# Altium footprint library PCB.PcbLib: 224 footprints (part 8 of 14)
Each footprint in its own frame and in the unit in brackets; x right, y up, seen from the top. Pads: shape width x height; smd on the part's side, far side on the other; paste and mask are expansions set on the pad; w line width, h text height; cw(c..) or ccw(c..) is an arc to the next point about the centre after c.
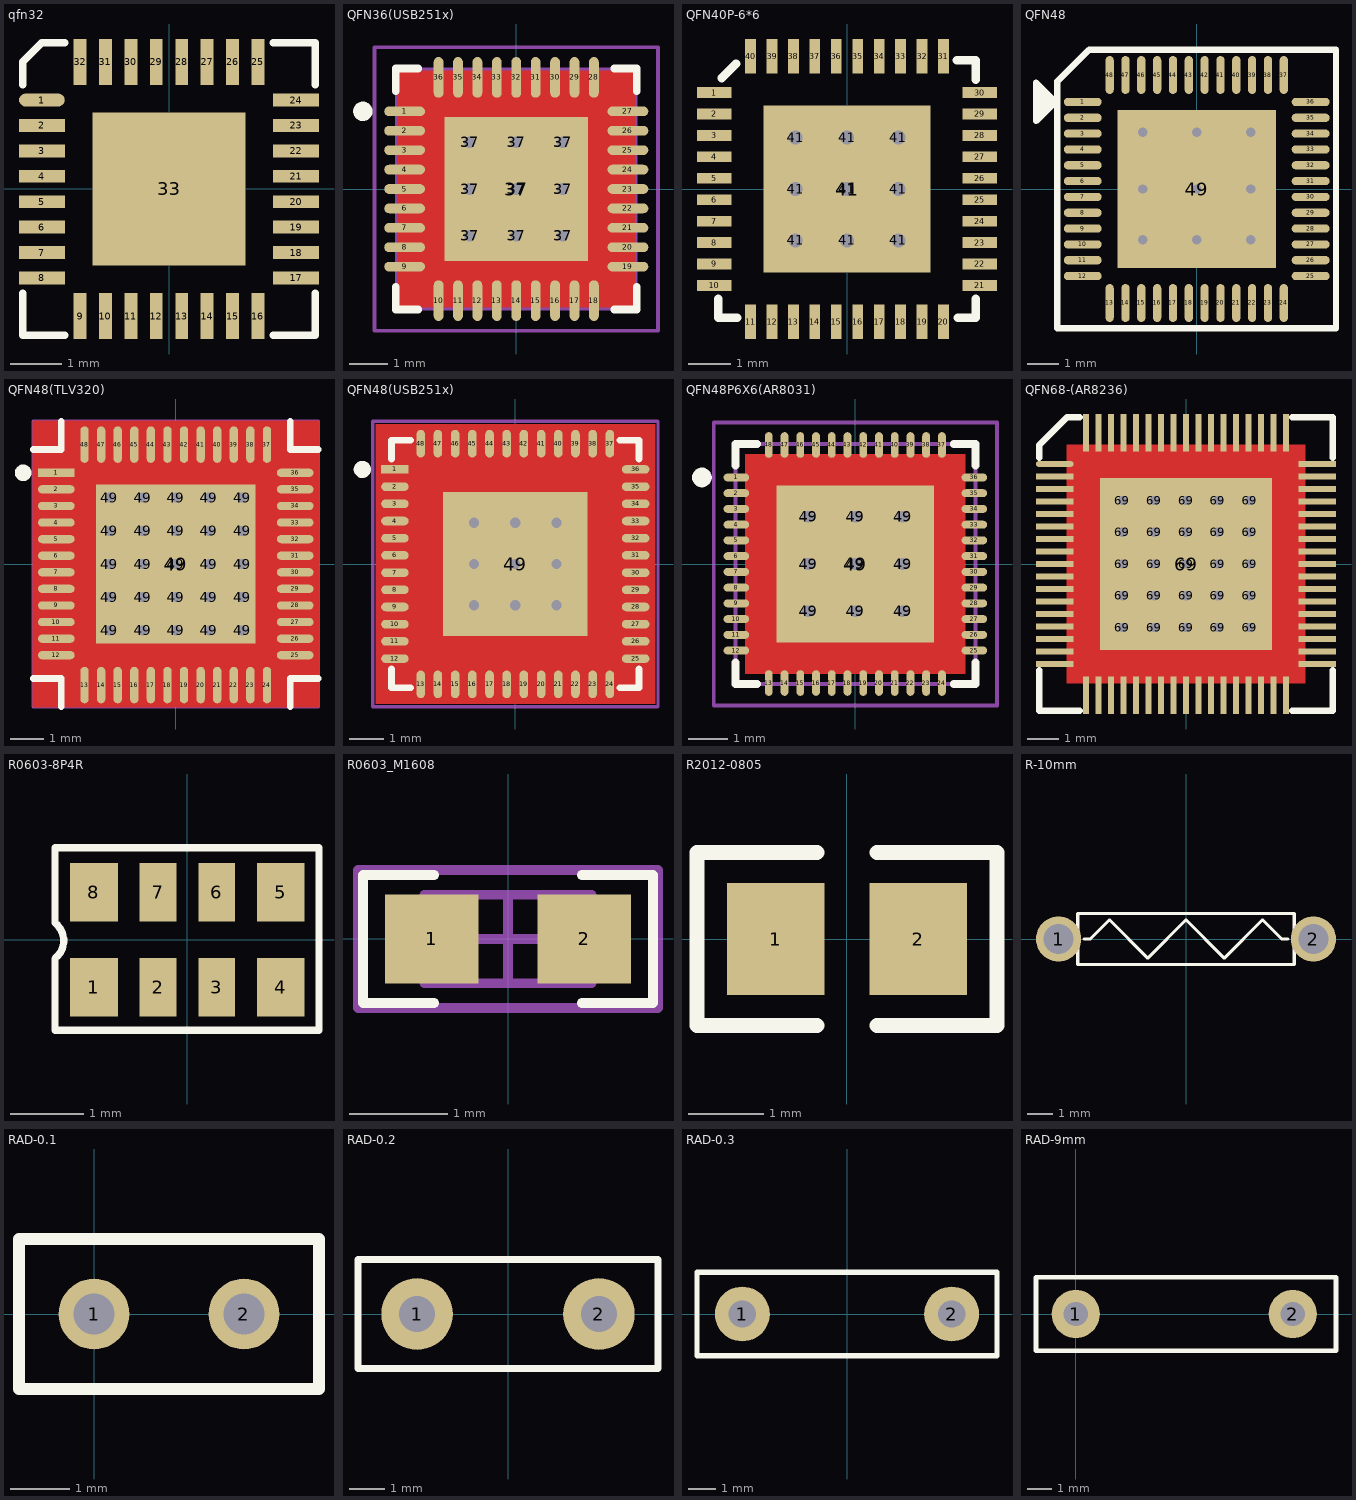
[diagram p7: the footprints below, top view; thin cyan lines are the x and y axes]

## qfn32 [mm]
pads (33):
  oval 0.9x0.254 smd: 1(-2.5,1.75)
  rect 0.9x0.254 smd: 2(-2.5,1.25) 3(-2.5,0.75) 4(-2.5,0.25) 5(-2.5,-0.25) 6(-2.5,-0.75) 7(-2.5,-1.25) 8(-2.5,-1.75) 17(2.5,-1.75) 18(2.5,-1.25) 19(2.5,-0.75) 20(2.5,-0.25) 21(2.5,0.25) 22(2.5,0.75) 23(2.5,1.25) 24(2.5,1.75)
  rect 0.254x0.9 smd: 9(-1.75,-2.5) 10(-1.25,-2.5) 11(-0.75,-2.5) 12(-0.25,-2.5) 13(0.25,-2.5) 14(0.75,-2.5) 15(1.25,-2.5) 16(1.75,-2.5) 25(1.75,2.5) 26(1.25,2.5) 27(0.75,2.5) 28(0.25,2.5) 29(-0.25,2.5) 30(-0.75,2.5) 31(-1.25,2.5) 32(-1.75,2.5)
  rect 3x3 smd: 33(0,0)
Top Overlay:
  lines w0.15: -2.875,-2.05 -2.875,-2.875 -2.05,-2.875 ; -2.875,2.05 -2.875,2.5 -2.5,2.875 -2.05,2.875 ; 2.05,-2.875 2.875,-2.875 2.875,-2.05 ; 2.05,2.875 2.875,2.875 2.875,2.05

## QFN36(USB251x) [mm]
height 1
pads (46):
  oval 1.05x0.25 smd: 1(-2.875,2) 2(-2.875,1.5) 3(-2.875,1) 4(-2.875,0.5) 5(-2.875,0) 6(-2.875,-0.5) 7(-2.875,-1) 8(-2.875,-1.5) 9(-2.875,-2) 19(2.875,-2) 20(2.875,-1.5) 21(2.875,-1) 22(2.875,-0.5) 23(2.875,0) 24(2.875,0.5) 25(2.875,1) 26(2.875,1.5) 27(2.875,2)
  oval 0.25x1.05 smd: 10(-2,-2.875) 11(-1.5,-2.875) 12(-1,-2.875) 13(-0.5,-2.875) 14(0,-2.875) 15(0.5,-2.875) 16(1,-2.875) 17(1.5,-2.875) 18(2,-2.875) 28(2,2.875) 29(1.5,2.875) 30(1,2.875) 31(0.5,2.875) 32(0,2.875) 33(-0.5,2.875) 34(-1,2.875) 35(-1.5,2.875) 36(-2,2.875)
  round 0.6 hole 0.3: 37(-1.2,-1.2) 37(-1.2,0) 37(-1.2,1.2) 37(0,-1.2) 37(0,0) 37(0,1.2) 37(1.2,-1.2) 37(1.2,0) 37(1.2,1.2)
  rect 3.7x3.7 smd: 37(0,0)
Top Layer:
  pour cut-out: -3.048,3.048 3.048,3.048 3.048,-3.048 -3.048,-3.048
Top Overlay:
  circle w0.25: c-3.95,2 r0.125
  lines w0.2: -3.1,-2.525 -3.1,-3.1 -2.525,-3.1 ; -3.1,2.525 -3.1,3.1 -2.525,3.1 ; 2.525,-3.1 3.1,-3.1 3.1,-2.525 ; 2.525,3.1 3.1,3.1 3.1,2.525
Mechanical 13:
  circle w0.1: c-2.125,2.125 r0.5
  lines w0.1: -3.075,-3.075 3.075,-3.075 3.075,3.075 -3.075,3.075 -3.075,-3.075
Mechanical 15:
  lines w0.1: -0.5,0 0.5,0 ; 0,-0.5 0,0.5 ; -3.65,-3.65 3.65,-3.65 3.65,3.65 -3.65,3.65 -3.65,-3.65
3D body: height 1, standoff 0.05, extent -3.075,-3.075 3.075,3.075

## QFN40P-6*6 [mm] "QFN, 48-Leads, Body 6.1x6.1mm (max), Pitch 0.40mm, IPC Medium Density"
height 0.8
pads (50):
  rect 0.8x0.25 smd: 1(-3.1,2.25) 2(-3.1,1.75) 3(-3.1,1.25) 4(-3.1,0.75) 5(-3.1,0.25) 6(-3.1,-0.25) 7(-3.1,-0.75) 8(-3.1,-1.25) 9(-3.1,-1.75) 10(-3.1,-2.25) 21(3.1,-2.25) 22(3.1,-1.75) 23(3.1,-1.25) 24(3.1,-0.75) 25(3.1,-0.25) 26(3.1,0.25) 27(3.1,0.75) 28(3.1,1.25) 29(3.1,1.75) 30(3.1,2.25)
  rect 0.25x0.8 smd: 11(-2.25,-3.1) 12(-1.75,-3.1) 13(-1.25,-3.1) 14(-0.75,-3.1) 15(-0.25,-3.1) 16(0.25,-3.1) 17(0.75,-3.1) 18(1.25,-3.1) 19(1.75,-3.1) 20(2.25,-3.1) 31(2.25,3.1) 32(1.75,3.1) 33(1.25,3.1) 34(0.75,3.1) 35(0.25,3.1) 36(-0.25,3.1) 37(-0.75,3.1) 38(-1.25,3.1) 39(-1.75,3.1) 40(-2.25,3.1)
  round 0.5 hole 0.33 unplated: 41(-1.2,-1.2) 41(-1.2,0) 41(-1.2,1.2) 41(0,-1.2) 41(0,0) 41(0,1.2) 41(1.2,-1.2) 41(1.2,0) 41(1.2,1.2)
  rect 3.9x3.9 smd: 41(0,0)
Top Overlay:
  lines w0.2: -3,-2.565 -3,-3 -2.565,-3 ; -2.921,2.591 -2.591,2.921 ; 2.565,3 3,3 3,2.55 ; 2.591,-3 2.997,-3 ; 3,-3 3,-2.565

## QFN48 [mm]
pads (49):
  oval 1.2x0.26 smd: 1(-3.6,2.75) 2(-3.6,2.25) 3(-3.6,1.75) 4(-3.6,1.25) 5(-3.6,0.75) 6(-3.6,0.25) 7(-3.6,-0.25) 8(-3.6,-0.75) 9(-3.6,-1.25) 10(-3.6,-1.75) 11(-3.6,-2.25) 12(-3.6,-2.75) 25(3.6,-2.75) 26(3.6,-2.25) 27(3.6,-1.75) 28(3.6,-1.25) 29(3.6,-0.75) 30(3.6,-0.25) 31(3.6,0.25) 32(3.6,0.75) 33(3.6,1.25) 34(3.6,1.75) 35(3.6,2.25) 36(3.6,2.75)
  oval 0.26x1.2 smd: 13(-2.75,-3.6) 14(-2.25,-3.6) 15(-1.75,-3.6) 16(-1.25,-3.6) 17(-0.75,-3.6) 18(-0.25,-3.6) 19(0.25,-3.6) 20(0.75,-3.6) 21(1.25,-3.6) 22(1.75,-3.6) 23(2.25,-3.6) 24(2.75,-3.6) 37(2.75,3.6) 38(2.25,3.6) 39(1.75,3.6) 40(1.25,3.6) 41(0.75,3.6) 42(0.25,3.6) 43(-0.25,3.6) 44(-0.75,3.6) 45(-1.25,3.6) 46(-1.75,3.6) 47(-2.25,3.6) 48(-2.75,3.6)
  rect 5x5 smd: 49(0,0)
via 1.7,1.8 diameter 0.66 hole 0.3
via -1.7,1.8 diameter 0.66 hole 0.3
via 0,1.8 diameter 0.66 hole 0.3
via 1.7,0 diameter 0.66 hole 0.3
via 0,0 diameter 0.66 hole 0.3
via -1.7,0 diameter 0.66 hole 0.3
via -1.7,-1.6 diameter 0.66 hole 0.3
via 0,-1.6 diameter 0.66 hole 0.3
via 1.7,-1.6 diameter 0.66 hole 0.3
Top Overlay:
  lines w0.203: -4.927,2.35 -4.927,3.15 ; -4.827,2.45 -4.827,3.05 ; -4.677,2.6 -4.677,2.95 ; -5.077,2.15 -4.477,2.75 -5.077,3.35 -5.077,2.15 ; -4.4,-4.4 -4.4,3.4 -3.4,4.4 4.4,4.4 4.4,-4.4 -4.4,-4.4

## QFN48(TLV320) [mm]
height 1
pads (74):
  rect 1.1x0.25 smd: 1(-3.6,2.75)
  oval 1.1x0.25 smd: 2(-3.6,2.25) 3(-3.6,1.75) 4(-3.6,1.25) 5(-3.6,0.75) 6(-3.6,0.25) 7(-3.6,-0.25) 8(-3.6,-0.75) 9(-3.6,-1.25) 10(-3.6,-1.75) 11(-3.6,-2.25) 12(-3.6,-2.75) 25(3.6,-2.75) 26(3.6,-2.25) 27(3.6,-1.75) 28(3.6,-1.25) 29(3.6,-0.75) 30(3.6,-0.25) 31(3.6,0.25) 32(3.6,0.75) 33(3.6,1.25) 34(3.6,1.75) 35(3.6,2.25) 36(3.6,2.75)
  oval 0.25x1.1 smd: 13(-2.75,-3.65) 14(-2.25,-3.65) 15(-1.75,-3.65) 16(-1.25,-3.65) 17(-0.75,-3.65) 18(-0.25,-3.65) 19(0.25,-3.65) 20(0.75,-3.65) 21(1.25,-3.65) 22(1.75,-3.65) 23(2.25,-3.65) 24(2.75,-3.65) 37(2.75,3.6) 38(2.25,3.6) 39(1.75,3.6) 40(1.25,3.6) 41(0.75,3.6) 42(0.25,3.6) 43(-0.25,3.6) 44(-0.75,3.6) 45(-1.25,3.6) 46(-1.75,3.6) 47(-2.25,3.6) 48(-2.75,3.6)
  round 0.66 hole 0.3: 49(-2,-2) 49(-2,-1) 49(-2,0) 49(-2,1) 49(-2,2) 49(-1,-2) 49(-1,-1) 49(-1,0) 49(-1,1) 49(-1,2) 49(0,-2) 49(0,-1) 49(0,0) 49(0,1) 49(0,2) 49(1,-2) 49(1,-1) 49(1,0) 49(1,1) 49(1,2) 49(2,-2) 49(2,-1) 49(2,0) 49(2,1) 49(2,2)
  rect 4.8x4.8 smd: 49(0,0)
Top Layer:
  pour cut-out: -4.318,4.318 4.318,4.318 4.318,-4.318 -4.318,-4.318
Top Overlay:
  circle w0.25: c-4.6,2.75 r0.125
  lines w0.2: -4.3,-3.45 -3.45,-3.45 -3.45,-4.3 ; -4.3,3.45 -3.45,3.45 -3.45,4.3 ; 3.45,-4.3 3.45,-3.45 4.3,-3.45 ; 3.45,4.3 3.45,3.45 4.3,3.45
Mechanical 13:
  circle w0.1: c-2.475,2.475 r0.5
  lines w0.1: -3.425,-3.425 -3.425,3.425 3.425,3.425 3.425,-3.425 -3.425,-3.425
Mechanical 15:
  lines w0.1: -0.5,0 0.5,0 ; 0,-0.5 0,0.5 ; -4.3,-4.3 -4.3,4.3 4.3,4.3 4.3,-4.3 -4.3,-4.3
3D body: height 1, standoff 0.05, extent -3.425,-3.425 3.425,3.425

## QFN48(USB251x) [mm]
height 1
pads (49):
  rect 0.8x0.25 smd: 1(-3.5,2.75)
  oval 0.8x0.25 smd: 2(-3.5,2.25) 3(-3.5,1.75) 4(-3.5,1.25) 5(-3.5,0.75) 6(-3.5,0.25) 7(-3.5,-0.25) 8(-3.5,-0.75) 9(-3.5,-1.25) 10(-3.5,-1.75) 11(-3.5,-2.25) 12(-3.5,-2.75) 25(3.5,-2.75) 26(3.5,-2.25) 27(3.5,-1.75) 28(3.5,-1.25) 29(3.5,-0.75) 30(3.5,-0.25) 31(3.5,0.25) 32(3.5,0.75) 33(3.5,1.25) 34(3.5,1.75) 35(3.5,2.25) 36(3.5,2.75)
  oval 0.25x0.8 smd: 13(-2.75,-3.5) 14(-2.25,-3.5) 15(-1.75,-3.5) 16(-1.25,-3.5) 17(-0.75,-3.5) 18(-0.25,-3.5) 19(0.25,-3.5) 20(0.75,-3.5) 21(1.25,-3.5) 22(1.75,-3.5) 23(2.25,-3.5) 24(2.75,-3.5) 37(2.75,3.5) 38(2.25,3.5) 39(1.75,3.5) 40(1.25,3.5) 41(0.75,3.5) 42(0.25,3.5) 43(-0.25,3.5) 44(-0.75,3.5) 45(-1.25,3.5) 46(-1.75,3.5) 47(-2.25,3.5) 48(-2.75,3.5)
  rect 4.2x4.2 smd: 49(0,0)
via -1.2,1.2 diameter 0.66 hole 0.3
via 0,1.2 diameter 0.66 hole 0.3
via 1.2,1.2 diameter 0.66 hole 0.3
via -1.2,0 diameter 0.66 hole 0.3
via 0,0 diameter 0.66 hole 0.3
via 1.2,0 diameter 0.66 hole 0.3
via -1.2,-1.2 diameter 0.66 hole 0.3
via 0,-1.2 diameter 0.66 hole 0.3
via 1.2,-1.2 diameter 0.66 hole 0.3
Top Layer:
  pour cut-out: -4.064,4.064 4.064,4.064 4.064,-4.064 -4.064,-4.064
Top Overlay:
  circle w0.25: c-4.45,2.75 r0.125
  lines w0.2: -3.6,-3.05 -3.6,-3.6 -3.05,-3.6 ; -3.6,3.05 -3.6,3.6 -3.05,3.6 ; 3.05,-3.6 3.6,-3.6 3.6,-3.05 ; 3.05,3.6 3.6,3.6 3.6,3.05
Mechanical 13:
  circle w0.1: c-2.625,2.625 r0.5
  lines w0.1: -3.575,-3.575 -3.575,3.575 3.575,3.575 3.575,-3.575 -3.575,-3.575
Mechanical 15:
  lines w0.1: -0.5,0 0.5,0 ; 0,-0.5 0,0.5 ; -4.15,-4.15 -4.15,4.15 4.15,4.15 4.15,-4.15 -4.15,-4.15
3D body: height 1, standoff 0.05, extent -3.575,-3.575 3.575,3.575

## QFN48P6X6(AR8031) [mm] "QFN, 48-Leads, Body 6.1x6.1mm (max), Pitch 0.40mm, IPC Medium Density"
height 0.8
pads (58):
  oval 0.65x0.2 smd: 1(-3.025,2.2) 2(-3.025,1.8) 3(-3.025,1.4) 4(-3.025,1) 5(-3.025,0.6) 6(-3.025,0.2) 7(-3.025,-0.2) 8(-3.025,-0.6) 9(-3.025,-1) 10(-3.025,-1.4) 11(-3.025,-1.8) 12(-3.025,-2.2) 25(3.025,-2.2) 26(3.025,-1.8) 27(3.025,-1.4) 28(3.025,-1) 29(3.025,-0.6) 30(3.025,-0.2) 31(3.025,0.2) 32(3.025,0.6) 33(3.025,1) 34(3.025,1.4) 35(3.025,1.8) 36(3.025,2.2)
  oval 0.2x0.65 smd: 13(-2.2,-3.025) 14(-1.8,-3.025) 15(-1.4,-3.025) 16(-1,-3.025) 17(-0.6,-3.025) 18(-0.2,-3.025) 19(0.2,-3.025) 20(0.6,-3.025) 21(1,-3.025) 22(1.4,-3.025) 23(1.8,-3.025) 24(2.2,-3.025) 37(2.2,3.025) 38(1.8,3.025) 39(1.4,3.025) 40(1,3.025) 41(0.6,3.025) 42(0.2,3.025) 43(-0.2,3.025) 44(-0.6,3.025) 45(-1,3.025) 46(-1.4,3.025) 47(-1.8,3.025) 48(-2.2,3.025)
  round 0.6 hole 0.3: 49(-1.2,-1.2) 49(-1.2,0) 49(-1.2,1.2) 49(0,-1.2) 49(0,0) 49(0,1.2) 49(1.2,-1.2) 49(1.2,0) 49(1.2,1.2)
  rect 4x4 smd: 49(0,0)
Top Layer:
  pour cut-out: -2.794,2.794 -2.794,-2.794 2.794,-2.794 2.794,2.794
Top Overlay:
  circle w0.25: c-3.9,2.2 r0.125
  lines w0.2: -3.05,-2.5 -3.05,-3.05 -2.5,-3.05 ; -3.05,2.5 -3.05,3.05 -2.5,3.05 ; 2.5,-3.05 3.05,-3.05 3.05,-2.5 ; 2.5,3.05 3.05,3.05 3.05,2.5
Mechanical 13:
  circle w0.1: c-2.1,2.1 r0.5
  lines w0.1: -3.05,-3.05 -3.05,3.05 3.05,3.05 3.05,-3.05 -3.05,-3.05
Mechanical 15:
  lines w0.1: -0.5,0 0.5,0 ; 0,-0.5 0,0.5 ; -3.6,-3.6 -3.6,3.6 3.6,3.6 3.6,-3.6 -3.6,-3.6
3D body: height 0.8, standoff 0.01, extent -3.05,-3.05 3.05,3.05

## QFN68-(AR8236) [mm]
pads (94):
  oval 1.2x0.2 smd: 1(-4.2,3.2)
  rect 1.2x0.2 smd: 2(-4.2,2.8) 3(-4.2,2.4) 4(-4.2,2) 5(-4.2,1.6) 6(-4.2,1.2) 7(-4.2,0.8) 8(-4.2,0.4) 9(-4.2,0) 10(-4.2,-0.4) 11(-4.2,-0.8) 12(-4.2,-1.2) 13(-4.2,-1.6) 14(-4.2,-2) 15(-4.2,-2.4) 16(-4.2,-2.8) 17(-4.2,-3.2) 35(4.2,-3.2) 36(4.2,-2.8) 37(4.2,-2.4) 38(4.2,-2) 39(4.2,-1.6) 40(4.2,-1.2) 41(4.2,-0.8) 42(4.2,-0.4) 43(4.2,0) 44(4.2,0.4) 45(4.2,0.8) 46(4.2,1.2) 47(4.2,1.6) 48(4.2,2) 49(4.2,2.4) 50(4.2,2.8) 51(4.2,3.2)
  rect 0.2x1.2 smd: 18(-3.2,-4.2) 19(-2.8,-4.2) 20(-2.4,-4.2) 21(-2,-4.2) 22(-1.6,-4.2) 23(-1.2,-4.2) 24(-0.8,-4.2) 25(-0.4,-4.2) 26(0,-4.2) 27(0.4,-4.2) 28(0.8,-4.2) 29(1.2,-4.2) 30(1.6,-4.2) 31(2,-4.2) 32(2.4,-4.2) 33(2.8,-4.2) 34(3.2,-4.2) 52(3.2,4.2) 53(2.8,4.2) 54(2.4,4.2) 55(2,4.2) 56(1.6,4.2) 57(1.2,4.2) 58(0.8,4.2) 59(0.4,4.2) 60(0,4.2) 61(-0.4,4.2) 62(-0.8,4.2) 63(-1.2,4.2) 64(-1.6,4.2) 65(-2,4.2) 66(-2.4,4.2) 67(-2.8,4.2) 68(-3.2,4.2)
  round 0.6 hole 0.3: 69(-2.032,-2.032) 69(-2.032,-1.016) 69(-2.032,0) 69(-2.032,1.016) 69(-2.032,2.032) 69(-1.016,-2.032) 69(-1.016,-1.016) 69(-1.016,0) 69(-1.016,1.016) 69(-1.016,2.032) 69(0,-2.032) 69(0,-1.016) 69(0,0) 69(0,1.016) 69(0,2.032) 69(1.016,-2.032) 69(1.016,-1.016) 69(1.016,0) 69(1.016,1.016) 69(1.016,2.032) 69(2.032,-2.032) 69(2.032,-1.016) 69(2.032,0) 69(2.032,1.016) 69(2.032,2.032)
  rect 5.5x5.5 smd: 69(0,0)
Top Layer:
  pour cut-out: -3.81,3.81 3.81,3.81 3.81,-3.81 -3.81,-3.81
Top Overlay:
  lines w0.2: -4.7,-3.4 -4.7,-4.7 -3.4,-4.7 ; -4.7,3.4 -4.7,3.809 -3.809,4.7 -3.4,4.7 ; 3.4,-4.7 4.7,-4.7 4.7,-3.4 ; 3.4,4.7 4.7,4.7 4.7,3.4

## R0603-8P4R [mm]
pads (8):
  rect 0.65x0.8 smd: 1(-1.275,-0.65) 4(1.275,-0.65) 5(1.275,0.65) 8(-1.275,0.65)
  rect 0.5x0.8 smd: 2(-0.4,-0.65) 3(0.4,-0.65) 6(0.4,0.65) 7(-0.4,0.65)
Top Overlay:
  lines w0.1: -1.808,-1.234 1.798,-1.234 1.798,1.255 -1.808,1.255 ; -1.808,-1.234 -1.808,-0.255 ccw(c-1.994,-0.013) -1.808,0.229 -1.808,1.254

## R0603_M1608 [mm] "Chip Capacitor, 2-Leads, Body 1.6x0.8mm, IPC Medium Density"
height 0.55
pads (2):
  rect 0.95x0.9 smd: 1(-0.775,0) 2(0.775,0)
Top Overlay:
  lines w0.1: -0.75,-0.65 -1.475,-0.65 -1.475,0.65 -0.75,0.65 ; 0.75,-0.65 1.475,-0.65 1.475,0.65 0.75,0.65
Mechanical 13:
  lines w0.1: -0.85,-0.45 0.85,-0.45 0.85,0.45 -0.85,0.45 -0.85,-0.45
Mechanical 15:
  lines w0.1: -0.45,0 0.45,0 ; 0,-0.45 0,0.45 ; -1.525,-0.7 1.525,-0.7 1.525,0.7 -1.525,0.7 -1.525,-0.7
3D body: height 0.55, standoff 0, extent -0.85,-0.45 0.85,0.45

## R2012-0805 [mm]
pads (2):
  rect 1.3x1.5 smd: 1(-0.95,0) 2(0.95,0)
Top Overlay:
  lines w0.2: -0.4,-1.15 -2,-1.15 -2,1.15 -0.4,1.15 ; 0.4,-1.15 2,-1.15 2,1.15 0.4,1.15

## R-10mm [mm]
pads (2):
  round 1.8 hole 1.2: 1(-5.08,0) 2(5.08,0)
Top Overlay:
  lines w0.127: -4.064,0 -3.81,0 -3.048,0.762 -1.524,-0.762 0,0.762 1.524,-0.762 3.048,0.762 3.81,0 4.064,0 ; -4.318,-1.016 -4.318,1.016 3.81,1.016 4.318,1.016 4.318,-1.016 -4.318,-1.016

## RAD-0.1 [mm]
pads (2):
  round 1.2 hole 0.7: 1(0,0) 2(2.54,0)
Top Overlay:
  lines w0.2: -1.27,-1.27 -1.27,1.27 3.81,1.27 3.81,-1.27 -1.27,-1.27

## RAD-0.2 [mm]
pads (2):
  round 2 hole 1: 1(-2.54,0) 2(2.54,0)
Top Overlay:
  lines w0.2: -4.191,-1.524 4.191,-1.524 4.191,1.524 -4.191,1.524 -4.191,-1.524

## RAD-0.3 [mm]
pads (2):
  round 2 hole 1: 1(-3.81,0) 2(3.81,0)
Top Overlay:
  lines w0.2: -5.461,-1.524 5.461,-1.524 5.461,1.524 -5.461,1.524 -5.461,-1.524

## RAD-9mm [mm]
pads (2):
  round 2 hole 1: 1(0,0) 2(9,0)
Top Overlay:
  lines w0.2: -1.651,-1.524 10.795,-1.524 10.795,1.524 -1.651,1.524 -1.651,-1.524